# Altium schematic symbol library Schlib Capacitores.SchLib: 89 symbols
Pins are listed as number, name and electrical type; pins without a type are passive.

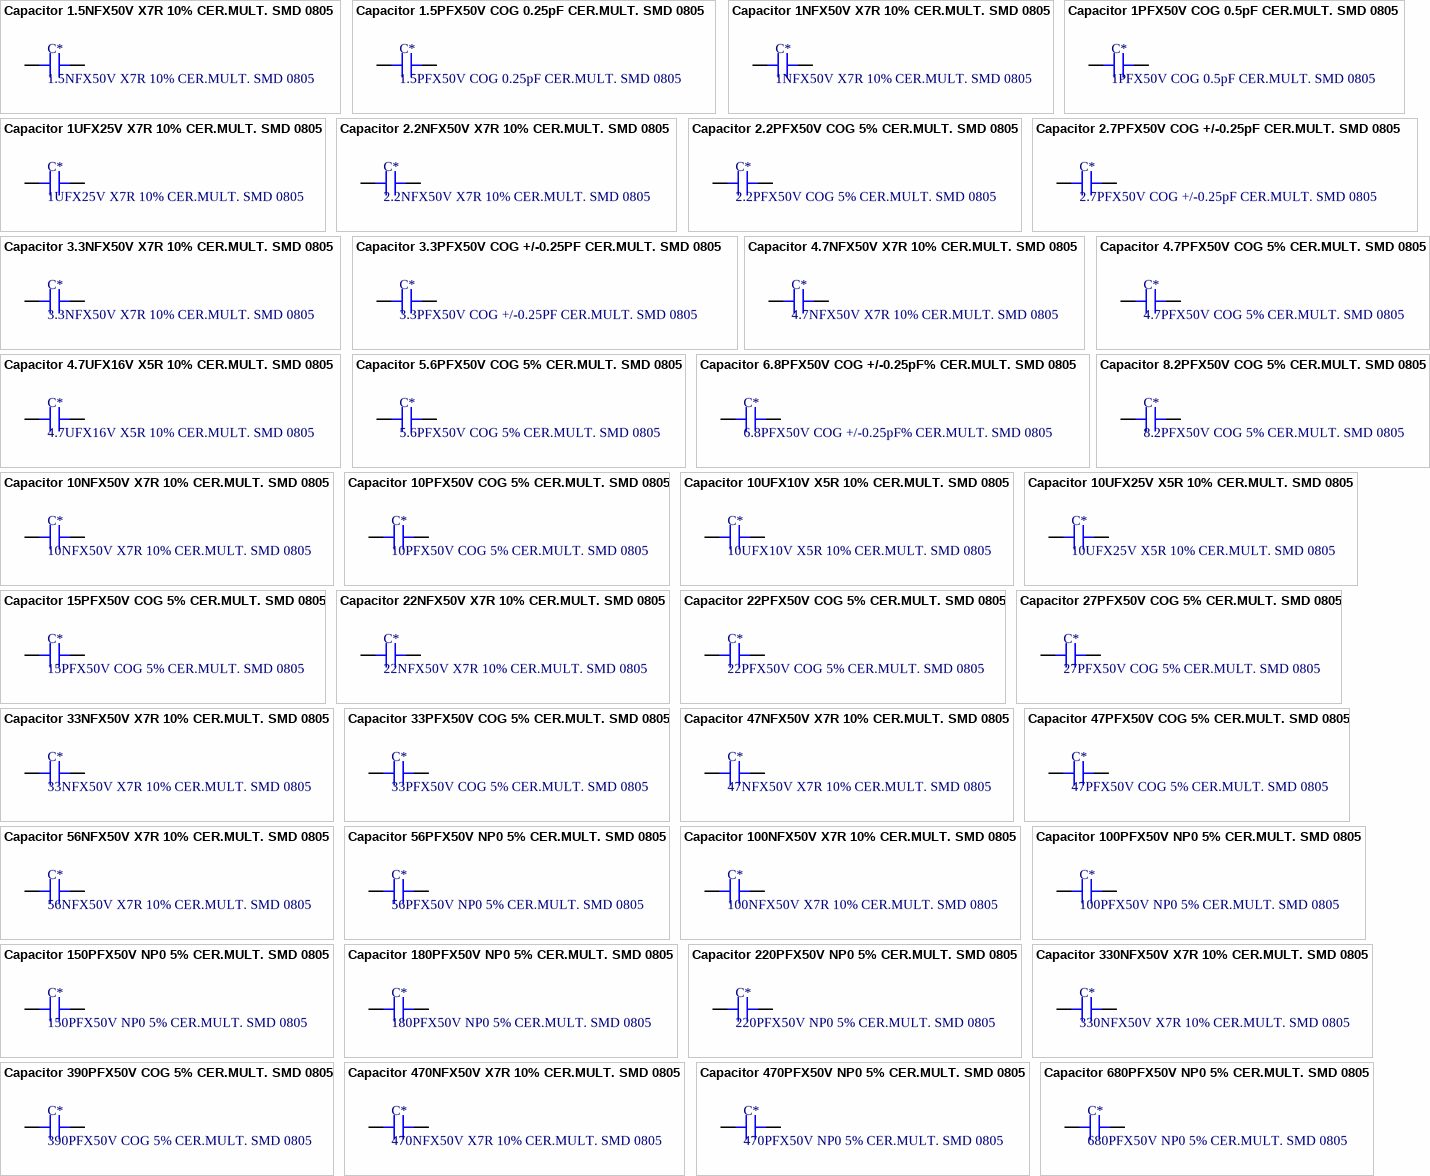
[diagram p0: symbols Capacitor 1.5NFX50V X7R 10% CER.MULT. SMD 0805 to Capacitor 680PFX50V NP0 5% CER.MULT. SMD 0805]

## Capacitor 1.5NFX50V X7R 10% CER.MULT. SMD 0805
designator C*, comment 1.5NFX50V X7R 10% CER.MULT. SMD 0805
COD. ELEMON: CA3279140
footprint CAP.SMD.0805 (COG 10% CER.MULT. SMD 0805)
pins: 1, 2

## Capacitor 1.5PFX50V COG 0.25pF CER.MULT. SMD 0805
designator C*, comment 1.5PFX50V COG 0.25pF CER.MULT. SMD 0805
COD. ELEMON: CA3278060
footprint CAP.SMD.0805 (COG 10% CER.MULT. SMD 0805)
pins: 1, 2

## Capacitor 1NFX50V X7R 10% CER.MULT. SMD 0805
designator C*, comment 1NFX50V X7R 10% CER.MULT. SMD 0805
COD. ELEMON: CA3279083K
footprint CAP.SMD.0805 (COG 10% CER.MULT. SMD 0805)
pins: 1, 2

## Capacitor 1PFX50V COG 0.5pF CER.MULT. SMD 0805
designator C*, comment 1PFX50V COG 0.5pF CER.MULT. SMD 0805
COD. ELEMON: CA3278001
footprint CAP.SMD.0805 (COG 10% CER.MULT. SMD 0805)
pins: 1, 2

## Capacitor 1UFX25V X7R 10% CER.MULT. SMD 0805
designator C*, comment 1UFX25V X7R 10% CER.MULT. SMD 0805
COD. ELEMON: CA3279950
footprint CAP.SMD.0805 (COG 10% CER.MULT. SMD 0805)
pins: 1, 2

## Capacitor 2.2NFX50V X7R 10% CER.MULT. SMD 0805
designator C*, comment 2.2NFX50V X7R 10% CER.MULT. SMD 0805
COD. ELEMON: CA3279200
footprint CAP.SMD.0805 (COG 10% CER.MULT. SMD 0805)
pins: 1, 2

## Capacitor 2.2PFX50V COG 5% CER.MULT. SMD 0805
designator C*, comment 2.2PFX50V COG 5% CER.MULT. SMD 0805
COD. ELEMON: CA3278122
footprint CAP.SMD.0805 (COG 10% CER.MULT. SMD 0805)
pins: 1, 2

## Capacitor 2.7PFX50V COG +/-0.25pF CER.MULT. SMD 0805
designator C*, comment 2.7PFX50V COG +/-0.25pF CER.MULT. SMD 0805
COD. ELEMON: CA3278154
footprint CAP.SMD.0805 (COG 10% CER.MULT. SMD 0805)
pins: 1, 2

## Capacitor 3.3NFX50V X7R 10% CER.MULT. SMD 0805
designator C*, comment 3.3NFX50V X7R 10% CER.MULT. SMD 0805
COD. ELEMON: CA3279249
footprint CAP.SMD.0805 (COG 10% CER.MULT. SMD 0805)
pins: 1, 2

## Capacitor 3.3PFX50V COG +/-0.25PF CER.MULT. SMD 0805
designator C*, comment 3.3PFX50V COG +/-0.25PF CER.MULT. SMD 0805
COD. ELEMON: CA3278182
footprint CAP.SMD.0805 (COG 10% CER.MULT. SMD 0805)
pins: 1, 2

## Capacitor 4.7NFX50V X7R 10% CER.MULT. SMD 0805
designator C*, comment 4.7NFX50V X7R 10% CER.MULT. SMD 0805
COD. ELEMON: CA3279330; COD. FV: CE.CAP.0012
footprint CAP.SMD.0805 (COG 10% CER.MULT. SMD 0805)
pins: 1, 2

## Capacitor 4.7PFX50V COG 5% CER.MULT. SMD 0805
designator C*, comment 4.7PFX50V COG 5% CER.MULT. SMD 0805
COD. ELEMON: CA3278239
footprint CAP.SMD.0805 (COG 10% CER.MULT. SMD 0805)
pins: 1, 2

## Capacitor 4.7UFX16V X5R 10% CER.MULT. SMD 0805
designator C*, comment 4.7UFX16V X5R 10% CER.MULT. SMD 0805
COD. ELEMON: CA3279961; COD. FV: CE.CAP.0012
footprint CAP.SMD.0805 (COG 10% CER.MULT. SMD 0805)
pins: 1, 2

## Capacitor 5.6PFX50V COG 5% CER.MULT. SMD 0805
designator C*, comment 5.6PFX50V COG 5% CER.MULT. SMD 0805
COD. ELEMON: CA3278274
footprint CAP.SMD.0805 (COG 10% CER.MULT. SMD 0805)
pins: 1, 2

## Capacitor 6.8PFX50V COG +/-0.25pF% CER.MULT. SMD 0805
designator C*, comment 6.8PFX50V COG +/-0.25pF% CER.MULT. SMD 0805
COD. ELEMON: CA3278301
footprint CAP.SMD.0805 (COG 10% CER.MULT. SMD 0805)
pins: 1, 2

## Capacitor 8.2PFX50V COG 5% CER.MULT. SMD 0805
designator C*, comment 8.2PFX50V COG 5% CER.MULT. SMD 0805
COD. ELEMON: CA3278334
footprint CAP.SMD.0805 (COG 10% CER.MULT. SMD 0805)
pins: 1, 2

## Capacitor 10NFX50V X7R 10% CER.MULT. SMD 0805
designator C*, comment 10NFX50V X7R 10% CER.MULT. SMD 0805
COD. ELEMON: CA3279412K; COD. FV: CE.CAP.0011
footprint CAP.SMD.0805 (COG 10% CER.MULT. SMD 0805)
pins: 1, 2

## Capacitor 10PFX50V COG 5% CER.MULT. SMD 0805
designator C*, comment 10PFX50V COG 5% CER.MULT. SMD 0805
COD. ELEMON: CA3278360
footprint CAP.SMD.0805 (COG 10% CER.MULT. SMD 0805)
pins: 1, 2

## Capacitor 10UFX10V X5R 10% CER.MULT. SMD 0805
designator C*, comment 10UFX10V X5R 10% CER.MULT. SMD 0805
COD. ELEMON: CA3279964
footprint CAP.SMD.0805 (COG 10% CER.MULT. SMD 0805)
pins: 1, 2

## Capacitor 10UFX25V X5R 10% CER.MULT. SMD 0805
designator C*, comment 10UFX25V X5R 10% CER.MULT. SMD 0805
COD. ELEMON: CA3279965
footprint CAP.SMD.0805 (COG 10% CER.MULT. SMD 0805)
pins: 1, 2

## Capacitor 15PFX50V COG 5% CER.MULT. SMD 0805
designator C*, comment 15PFX50V COG 5% CER.MULT. SMD 0805
COD. ELEMON: CA3278421
footprint CAP.SMD.0805 (COG 10% CER.MULT. SMD 0805)
pins: 1, 2

## Capacitor 22NFX50V X7R 10% CER.MULT. SMD 0805
designator C*, comment 22NFX50V X7R 10% CER.MULT. SMD 0805
COD. ELEMON: CA3279536
footprint CAP.SMD.0805 (COG 10% CER.MULT. SMD 0805)
pins: 1, 2

## Capacitor 22PFX50V COG 5% CER.MULT. SMD 0805
designator C*, comment 22PFX50V COG 5% CER.MULT. SMD 0805
COD. ELEMON: CA3278480
footprint CAP.SMD.0805 (COG 10% CER.MULT. SMD 0805)
pins: 1, 2

## Capacitor 27PFX50V COG 5% CER.MULT. SMD 0805
designator C*, comment 27PFX50V COG 5% CER.MULT. SMD 0805
COD. ELEMON: CA3278511
footprint CAP.SMD.0805 (COG 10% CER.MULT. SMD 0805)
pins: 1, 2

## Capacitor 33NFX50V X7R 10% CER.MULT. SMD 0805
designator C*, comment 33NFX50V X7R 10% CER.MULT. SMD 0805
COD. ELEMON: CA3279594K
footprint CAP.SMD.0805 (COG 10% CER.MULT. SMD 0805)
pins: 1, 2

## Capacitor 33PFX50V COG 5% CER.MULT. SMD 0805
designator C*, comment 33PFX50V COG 5% CER.MULT. SMD 0805
COD. ELEMON: CA3278540
footprint CAP.SMD.0805 (COG 10% CER.MULT. SMD 0805)
pins: 1, 2

## Capacitor 47NFX50V X7R 10% CER.MULT. SMD 0805
designator C*, comment 47NFX50V X7R 10% CER.MULT. SMD 0805
COD. ELEMON: CA3279656K
footprint CAP.SMD.0805 (COG 10% CER.MULT. SMD 0805)
pins: 1, 2

## Capacitor 47PFX50V COG 5% CER.MULT. SMD 0805
designator C*, comment 47PFX50V COG 5% CER.MULT. SMD 0805
COD. ELEMON: CA3278600
footprint CAP.SMD.0805 (COG 10% CER.MULT. SMD 0805)
pins: 1, 2

## Capacitor 56NFX50V X7R 10% CER.MULT. SMD 0805
designator C*, comment 56NFX50V X7R 10% CER.MULT. SMD 0805
COD. ELEMON: CA3279702
footprint CAP.SMD.0805 (COG 10% CER.MULT. SMD 0805)
pins: 1, 2

## Capacitor 56PFX50V NP0 5% CER.MULT. SMD 0805
designator C*, comment 56PFX50V NP0 5% CER.MULT. SMD 0805
COD. ELEMON: CA3278635
footprint CAP.SMD.0805 (COG 10% CER.MULT. SMD 0805)
pins: 1, 2

## Capacitor 100NFX50V X7R 10% CER.MULT. SMD 0805
designator C*, comment 100NFX50V X7R 10% CER.MULT. SMD 0805
COD. ELEMON: CA3279774; COD. FV: CE.CAP.0008
footprint CAP.SMD.0805 (COG 10% CER.MULT. SMD 0805)
pins: 1, 2

## Capacitor 100PFX50V NP0 5% CER.MULT. SMD 0805
designator C*, comment 100PFX50V NP0 5% CER.MULT. SMD 0805
COD. ELEMON: CA3278720
footprint CAP.SMD.0805 (COG 10% CER.MULT. SMD 0805)
pins: 1, 2

## Capacitor 150PFX50V NP0 5% CER.MULT. SMD 0805
designator C*, comment 150PFX50V NP0 5% CER.MULT. SMD 0805
COD. ELEMON: CA3278785
footprint CAP.SMD.0805 (COG 10% CER.MULT. SMD 0805)
pins: 1, 2

## Capacitor 180PFX50V NP0 5% CER.MULT. SMD 0805
designator C*, comment 180PFX50V NP0 5% CER.MULT. SMD 0805
COD. ELEMON: CA3278810
footprint CAP.SMD.0805 (COG 10% CER.MULT. SMD 0805)
pins: 1, 2

## Capacitor 220PFX50V NP0 5% CER.MULT. SMD 0805
designator C*, comment 220PFX50V NP0 5% CER.MULT. SMD 0805
COD. ELEMON: CA3278845
footprint CAP.SMD.0805 (COG 10% CER.MULT. SMD 0805)
pins: 1, 2

## Capacitor 330NFX50V X7R 10% CER.MULT. SMD 0805
designator C*, comment 330NFX50V X7R 10% CER.MULT. SMD 0805
COD. ELEMON: CA3279849
footprint CAP.SMD.0805 (COG 10% CER.MULT. SMD 0805)
pins: 1, 2

## Capacitor 390PFX50V COG 5% CER.MULT. SMD 0805
designator C*, comment 390PFX50V COG 5% CER.MULT. SMD 0805
COD. ELEMON: CA3278935
footprint CAP.SMD.0805 (COG 10% CER.MULT. SMD 0805)
pins: 1, 2

## Capacitor 470NFX50V X7R 10% CER.MULT. SMD 0805
designator C*, comment 470NFX50V X7R 10% CER.MULT. SMD 0805
COD. ELEMON: CA3279890K
footprint CAP.SMD.0805 (COG 10% CER.MULT. SMD 0805)
pins: 1, 2

## Capacitor 470PFX50V NP0 5% CER.MULT. SMD 0805
designator C*, comment 470PFX50V NP0 5% CER.MULT. SMD 0805
COD. ELEMON: CA3278963
footprint CAP.SMD.0805 (COG 10% CER.MULT. SMD 0805)
pins: 1, 2

## Capacitor 680PFX50V NP0 5% CER.MULT. SMD 0805
designator C*, comment 680PFX50V NP0 5% CER.MULT. SMD 0805
COD. ELEMON: CA3279025
footprint CAP.SMD.0805 (COG 10% CER.MULT. SMD 0805)
pins: 1, 2

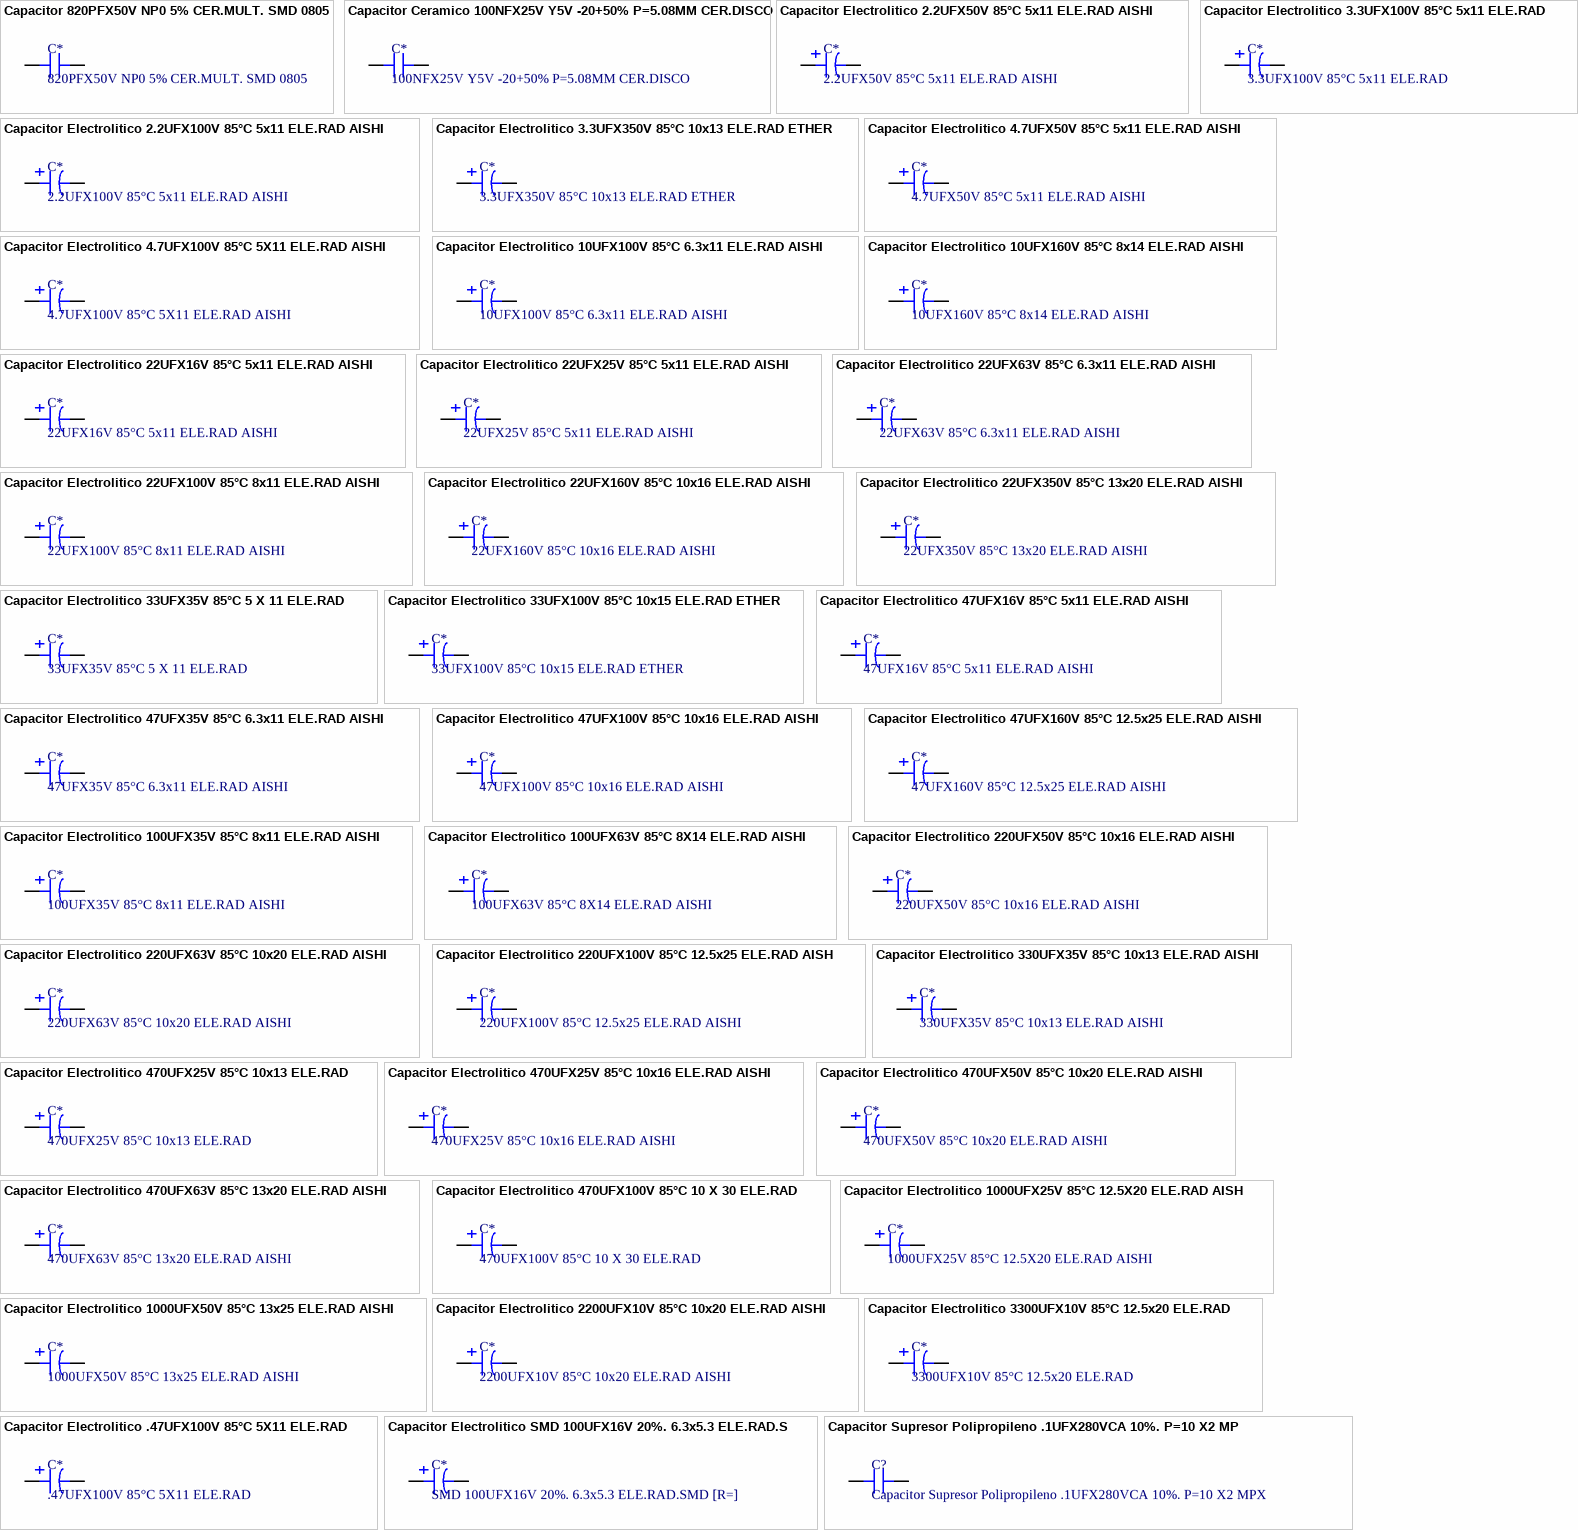
[diagram p1: symbols Capacitor 820PFX50V NP0 5% CER.MULT. SMD 0805 to Capacitor Supresor Polipropileno .1UFX280VCA 10%. P=10 X2 MPX]

## Capacitor 820PFX50V NP0 5% CER.MULT. SMD 0805
designator C*, comment 820PFX50V NP0 5% CER.MULT. SMD 0805
COD. ELEMON: CA3279050
footprint CAP.SMD.0805 (COG 10% CER.MULT. SMD 0805)
pins: 1, 2

## Capacitor Ceramico 100NFX25V Y5V -20+50% P=5.08MM CER.DISCO
designator C*, comment 100NFX25V Y5V -20+50% P=5.08MM CER.DISCO
COD. ELEMON: CA3159640
footprint CAP CERAMICO (CAPACITOR CERAMICO 100nf)
pins: 1, 2

## Capacitor Electrolitico 2.2UFX50V 85°C 5x11 ELE.RAD AISHI
designator C*, comment 2.2UFX50V 85°C 5x11 ELE.RAD AISHI
COD. ELEMON: CA3609444
footprint CAP-ELEC-5X11 (CAPACITOR ELECTROLITICO 5 X 11)
pins: 1, 2

## Capacitor Electrolitico 2.2UFX100V 85°C 5x11 ELE.RAD AISHI
designator C*, comment 2.2UFX100V 85°C 5x11 ELE.RAD AISHI
COD. ELEMON: CA3609711
footprint CAP-ELEC-5X11 (CAPACITOR ELECTROLITICO 5 X 11)
pins: 1, 2

## Capacitor Electrolitico 3.3UFX100V 85°C 5x11 ELE.RAD
designator C*, comment 3.3UFX100V 85°C 5x11 ELE.RAD
COD. ELEMON: CA3609721
footprint CAP-ELEC-5X11 (CAPACITOR ELECTROLITICO 5 X 11)
pins: 1, 2

## Capacitor Electrolitico 3.3UFX350V 85°C 10x13 ELE.RAD ETHER
designator C*, comment 3.3UFX350V 85°C 10x13 ELE.RAD ETHER
COD. ELEMON: CA3609944
footprint CAP-ELEC-10X13 (CAPACITOR ELECTROLITICO 10 X 13)
pins: 1, 2

## Capacitor Electrolitico 4.7UFX50V 85°C 5x11 ELE.RAD AISHI
designator C*, comment 4.7UFX50V 85°C 5x11 ELE.RAD AISHI
COD. ELEMON: CA3609446
footprint CAP-ELEC-5X11 (CAPACITOR ELECTROLITICO 5 X 11)
pins: 1, 2

## Capacitor Electrolitico 4.7UFX100V 85°C 5X11 ELE.RAD AISHI
designator C*, comment 4.7UFX100V 85°C 5X11 ELE.RAD AISHI
COD. ELEMON: CA3609731
footprint CAP-ELEC-5X11 (CAPACITOR ELECTROLITICO 5 X 11)
pins: 1, 2

## Capacitor Electrolitico 10UFX100V 85°C 6.3x11 ELE.RAD AISHI
designator C*, comment 10UFX100V 85°C 6.3x11 ELE.RAD AISHI
COD. ELEMON: CA3609755
footprint CAP-ELEC-6-3X11 (CAPACITOR ELECTROLITICO 6.3 X 11)
pins: 1, 2

## Capacitor Electrolitico 10UFX160V 85°C 8x14 ELE.RAD AISHI
designator C*, comment 10UFX160V 85°C 8x14 ELE.RAD AISHI
COD. ELEMON: CA3609834
footprint CAP-ELEC-8X14 (CAPACITOR ELECTROLITICO 8 X 14)
pins: 1, 2

## Capacitor Electrolitico 22UFX16V 85°C 5x11 ELE.RAD AISHI
designator C*, comment 22UFX16V 85°C 5x11 ELE.RAD AISHI
COD. ELEMON: CA3609091
footprint CAP-ELEC-5X11 (CAPACITOR ELECTROLITICO 5 X 11)
pins: 1, 2

## Capacitor Electrolitico 22UFX25V 85°C 5x11 ELE.RAD AISHI
designator C*, comment 22UFX25V 85°C 5x11 ELE.RAD AISHI
COD. ELEMON: CA3609231
footprint CAP-ELEC-5X11 (CAPACITOR ELECTROLITICO 5 X 11)
pins: 1, 2

## Capacitor Electrolitico 22UFX63V 85°C 6.3x11 ELE.RAD AISHI
designator C*, comment 22UFX63V 85°C 6.3x11 ELE.RAD AISHI
COD. ELEMON: CA3609560
footprint CAP-ELEC-6-3X11 (CAPACITOR ELECTROLITICO 6.3 X 11)
pins: 1, 2

## Capacitor Electrolitico 22UFX100V 85°C 8x11 ELE.RAD AISHI
designator C*, comment 22UFX100V 85°C 8x11 ELE.RAD AISHI
COD. ELEMON: CA3609775
footprint CAP-ELEC-8X11 (CAPACITOR ELECTROLITICO 8 X 11)
pins: 1, 2

## Capacitor Electrolitico 22UFX160V 85°C 10x16 ELE.RAD AISHI
designator C*, comment 22UFX160V 85°C 10x16 ELE.RAD AISHI
COD. ELEMON: CA3609843
footprint CAP-ELEC-10X16 (CAPACITOR ELECTROLITICO 10 X 16)
pins: 1, 2

## Capacitor Electrolitico 22UFX350V 85°C 13x20 ELE.RAD AISHI
designator C*, comment 22UFX350V 85°C 13x20 ELE.RAD AISHI
COD. ELEMON: CA3609956
footprint CAP-ELEC-12.5X20 (CAPACITOR ELECTROLITICO 12.5 X 20)
pins: 1, 2

## Capacitor Electrolitico 33UFX35V 85°C 5 X 11 ELE.RAD
designator C*, comment 33UFX35V 85°C 5 X 11 ELE.RAD
COD. ELEMON: CA3609351
footprint CAP-ELEC-5X11 (CAPACITOR ELECTROLITICO 5 X 11)
pins: 1, 2

## Capacitor Electrolitico 33UFX100V 85°C 10x15 ELE.RAD ETHER
designator C*, comment 33UFX100V 85°C 10x15 ELE.RAD ETHER
COD. ELEMON: CA3609781
footprint CAP-ELEC-10X16 (CAPACITOR ELECTROLITICO 10 X 16)
pins: 1, 2

## Capacitor Electrolitico 47UFX16V 85°C 5x11 ELE.RAD AISHI
designator C*, comment 47UFX16V 85°C 5x11 ELE.RAD AISHI
COD. ELEMON: CA3609112
footprint CAP-ELEC-5X11 (CAPACITOR ELECTROLITICO 5 X 11)
pins: 1, 2

## Capacitor Electrolitico 47UFX35V 85°C 6.3x11 ELE.RAD AISHI
designator C*, comment 47UFX35V 85°C 6.3x11 ELE.RAD AISHI
COD. ELEMON: CA3609355
footprint CAP-ELEC-6-3X11 (CAPACITOR ELECTROLITICO 6.3 X 11)
pins: 1, 2

## Capacitor Electrolitico 47UFX100V 85°C 10x16 ELE.RAD AISHI
designator C*, comment 47UFX100V 85°C 10x16 ELE.RAD AISHI
COD. ELEMON: CA3609791
footprint CAP-ELEC-10X16 (CAPACITOR ELECTROLITICO 10 X 16)
pins: 1, 2

## Capacitor Electrolitico 47UFX160V 85°C 12.5x25 ELE.RAD AISHI
designator C*, comment 47UFX160V 85°C 12.5x25 ELE.RAD AISHI
COD. ELEMON: CA3609848
footprint CAP-ELEC-12.5X25 (CAPACITOR ELECTROLITICO 12.5 X 25)
pins: 1, 2

## Capacitor Electrolitico 100UFX35V 85°C 8x11 ELE.RAD AISHI
designator C*, comment 100UFX35V 85°C 8x11 ELE.RAD AISHI
COD. ELEMON: CA3609372; COD. FV: CE.CAP.0009
footprint CAP-ELEC-8X11 (CAPACITOR ELECTROLITICO 8 X 11)
pins: 1, 2

## Capacitor Electrolitico 100UFX63V 85°C 8X14 ELE.RAD AISHI
designator C*, comment 100UFX63V 85°C 8X14 ELE.RAD AISHI
100UFX63V 85°C 8X14 ELE.RAD AISHII; COD. ELEMON: CA3609595
footprint CAP-ELEC-8X14 (CAPACITOR ELECTROLITICO 8 X 14)
pins: 1, 2

## Capacitor Electrolitico 220UFX50V 85°C 10x16 ELE.RAD AISHI
designator C*, comment 220UFX50V 85°C 10x16 ELE.RAD AISHI
COD. ELEMON: CA3609481
footprint CAP-ELEC-10X16 (CAPACITOR ELECTROLITICO 10 X 16)
pins: 1, 2

## Capacitor Electrolitico 220UFX63V 85°C 10x20 ELE.RAD AISHI
designator C*, comment 220UFX63V 85°C 10x20 ELE.RAD AISHI
220UFX63V 85°C 10x20 ELE.RAD AISHII; COD. ELEMON: CA3609605
footprint CAP-ELEC-10X20 (CAPACITOR ELECTROLITICO 10 X 20)
pins: 1, 2

## Capacitor Electrolitico 220UFX100V 85°C 12.5x25 ELE.RAD AISHI
designator C*, comment 220UFX100V 85°C 12.5x25 ELE.RAD AISHI
COD. ELEMON: CA3609816
footprint CAP-ELEC-12.5X25 (CAPACITOR ELECTROLITICO 12.5 X 25)
pins: 1, 2

## Capacitor Electrolitico 330UFX35V 85°C 10x13 ELE.RAD AISHI
designator C*, comment 330UFX35V 85°C 10x13 ELE.RAD AISHI
COD. ELEMON: CA3609386
footprint CAP-ELEC-10X13 (CAPACITOR ELECTROLITICO 10 X 13)
pins: 1, 2

## Capacitor Electrolitico 470UFX25V 85°C 10x13 ELE.RAD
designator C*, comment 470UFX25V 85°C 10x13 ELE.RAD
COD. ELEMON: CA3609281A
footprint CAP-ELEC-10X13 (CAPACITOR ELECTROLITICO 10 X 13)
pins: 1, 2

## Capacitor Electrolitico 470UFX25V 85°C 10x16 ELE.RAD AISHI
designator C*, comment 470UFX25V 85°C 10x16 ELE.RAD AISHI
COD. ELEMON: CA3609281
footprint CAP-ELEC-10X16 (CAPACITOR ELECTROLITICO 10 X 16)
pins: 1, 2

## Capacitor Electrolitico 470UFX50V 85°C 10x20 ELE.RAD AISHI
designator C*, comment 470UFX50V 85°C 10x20 ELE.RAD AISHI
COD. ELEMON: CA3609483
footprint CAP-ELEC-10X20 (CAPACITOR ELECTROLITICO 10 X 20)
pins: 1, 2

## Capacitor Electrolitico 470UFX63V 85°C 13x20 ELE.RAD AISHI
designator C*, comment 470UFX63V 85°C 13x20 ELE.RAD AISHI
COD. ELEMON: CA3609625
footprint CAP-ELEC-12.5X20 (CAPACITOR ELECTROLITICO 12.5 X 20)
pins: 1, 2

## Capacitor Electrolitico 470UFX100V 85°C 10 X 30 ELE.RAD
designator C*, comment 470UFX100V 85°C 10 X 30 ELE.RAD
COD. ELEMON: CA3609824
footprint CAP-ELEC-10X30 (CAPACITOR ELECTROLITICO 10 X 30)
pins: 1, 2

## Capacitor Electrolitico 1000UFX25V 85°C 12.5X20 ELE.RAD AISHI
designator C*, comment 1000UFX25V 85°C 12.5X20 ELE.RAD AISHI
COD. ELEMON: CA3609291; COD. FV: CE.CAP.0010
footprint CAP-ELEC-12.5X20 (CAPACITOR ELECTROLITICO 12.5 X 20)
pins: 1, 2

## Capacitor Electrolitico 1000UFX50V 85°C 13x25 ELE.RAD AISHI
designator C*, comment 1000UFX50V 85°C 13x25 ELE.RAD AISHI
COD. ELEMON: CA3609495
footprint CAP-ELEC-12.5X25 (CAPACITOR ELECTROLITICO 12.5 X 25)
pins: 1, 2

## Capacitor Electrolitico 2200UFX10V 85°C 10x20 ELE.RAD AISHI
designator C*, comment 2200UFX10V 85°C 10x20 ELE.RAD AISHI
COD. ELEMON: CA3600820
footprint CAP-ELEC-10X20 (CAPACITOR ELECTROLITICO 10 X 20)
pins: 1, 2

## Capacitor Electrolitico 3300UFX10V 85°C 12.5x20 ELE.RAD
designator C*, comment 3300UFX10V 85°C 12.5x20 ELE.RAD
COD. ELEMON: CA3600710
footprint CAP-ELEC-12.5X20 (CAPACITOR ELECTROLITICO 12.5 X 20)
pins: 1, 2

## Capacitor Electrolitico .47UFX100V 85°C 5X11 ELE.RAD
designator C*, comment .47UFX100V 85°C 5X11 ELE.RAD
COD. ELEMON: CA3609670
footprint CAP-ELEC-5X11 (CAPACITOR ELECTROLITICO 5 X 11)
pins: 1, 2

## Capacitor Electrolitico SMD 100UFX16V 20%. 6.3x5.3 ELE.RAD.SMD [R=]
designator C*, comment SMD 100UFX16V 20%. 6.3x5.3 ELE.RAD.SMD [R=]
100UFX16V 20%. 6.3x5.3 ELE.RAD.SMD [R=]; COD. ELEMON: CA3629130; COD. FV: CE.CAP.0006
footprint CAP-ELEC-SMD (CAP-ELEC-SMD-100UFX16V)
pins: 1, 2

## Capacitor Supresor Polipropileno .1UFX280VCA 10%. P=10 X2 MPX
designator C?
COD. ELEMON: CA3739051
footprint Capacitor Supresor Polipropileno
pins: 1, 2

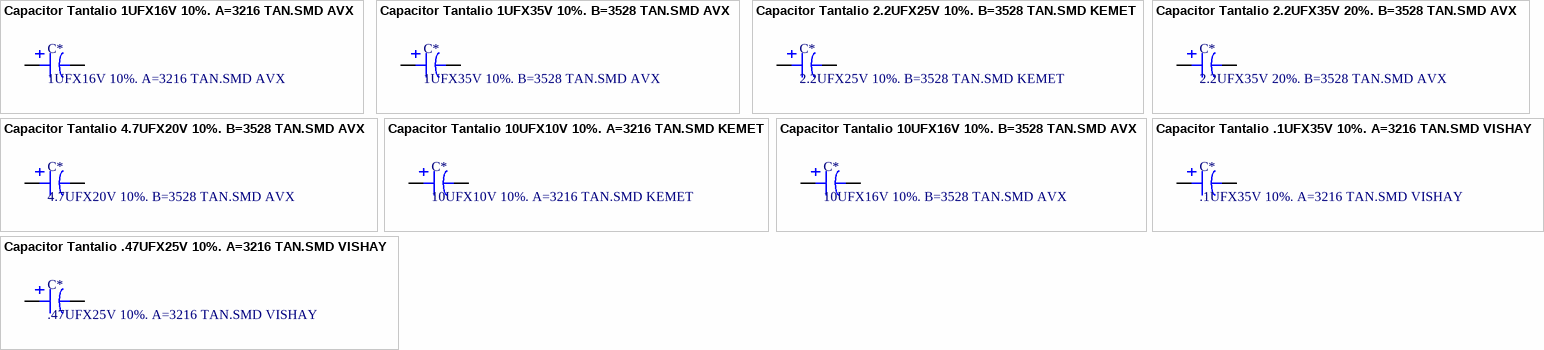
[diagram p2: symbols Capacitor Tantalio 1UFX16V 10%. A=3216 TAN.SMD AVX to Capacitor Tantalio .47UFX25V 10%. A=3216 TAN.SMD VISHAY]

## Capacitor Tantalio 1UFX16V 10%. A=3216 TAN.SMD AVX
designator C*, comment 1UFX16V 10%. A=3216 TAN.SMD AVX
COD. ELEMON: CA3389005
footprint CAP-SMD-1206 (Capacitor Tantalio SMD 1206)
pins: 1, 2

## Capacitor Tantalio 1UFX35V 10%. B=3528 TAN.SMD AVX
designator C*, comment 1UFX35V 10%. B=3528 TAN.SMD AVX
COD. ELEMON: CA3389240
footprint CAP.SMD.1210 (10%. B=3528 TAN.SMD KEMET)
pins: 1, 2

## Capacitor Tantalio 2.2UFX25V 10%. B=3528 TAN.SMD KEMET
designator C*, comment 2.2UFX25V 10%. B=3528 TAN.SMD KEMET
COD. ELEMON: CA3389120
footprint CAP.SMD.1210 (10%. B=3528 TAN.SMD KEMET)
pins: 1, 2

## Capacitor Tantalio 2.2UFX35V 20%. B=3528 TAN.SMD AVX
designator C*, comment 2.2UFX35V 20%. B=3528 TAN.SMD AVX
COD. ELEMON: CA3389250
footprint CAP.SMD.1210 (10%. B=3528 TAN.SMD KEMET)
pins: 1, 2

## Capacitor Tantalio 4.7UFX20V 10%. B=3528 TAN.SMD AVX
designator C*, comment 4.7UFX20V 10%. B=3528 TAN.SMD AVX
COD. ELEMON: CA3389015
footprint CAP.SMD.1210 (10%. B=3528 TAN.SMD KEMET)
pins: 1, 2

## Capacitor Tantalio 10UFX10V 10%. A=3216 TAN.SMD KEMET
designator C*, comment 10UFX10V 10%. A=3216 TAN.SMD KEMET
COD. ELEMON: CA3388105
footprint CAP-SMD-1206 (Capacitor Tantalio SMD 1206)
pins: 1, 2

## Capacitor Tantalio 10UFX16V 10%. B=3528 TAN.SMD AVX
designator C*, comment 10UFX16V 10%. B=3528 TAN.SMD AVX
COD. ELEMON: CA3389018
footprint CAP.SMD.1210 (10%. B=3528 TAN.SMD KEMET)
pins: 1, 2

## Capacitor Tantalio .1UFX35V 10%. A=3216 TAN.SMD VISHAY
designator C*, comment .1UFX35V 10%. A=3216 TAN.SMD VISHAY
COD. ELEMON: CA3389205
footprint CAP-SMD-1206 (Capacitor Tantalio SMD 1206)
pins: 1, 2

## Capacitor Tantalio .47UFX25V 10%. A=3216 TAN.SMD VISHAY
designator C*, comment .47UFX25V 10%. A=3216 TAN.SMD VISHAY
COD. ELEMON: CA3389225
footprint CAP-SMD-1206 (Capacitor Tantalio SMD 1206)
pins: 1, 2